# Altium schematic symbol library digital_input_module.SchLib: 10 symbols
Pins are listed as number, name and electrical type; pins without a type are passive.

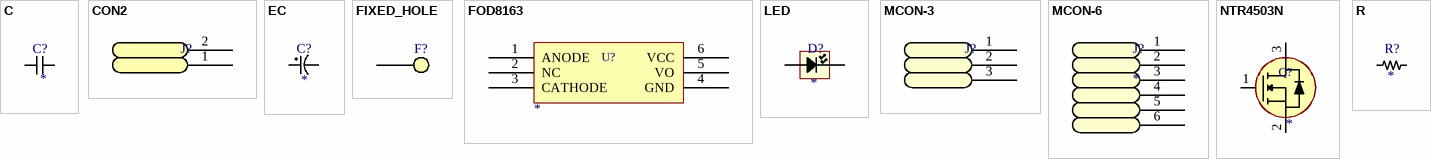
[diagram p0: symbols C to R]

## C
designator C?
Non-polarized Capacitor; Value: *
footprint CAP1608L
pins: 1, 2

## CON2
designator J?  (value not drawn)
Generic Connector 2 Pin
footprint DG128-5.0-02P
pins: 1 "Generic Connector 2 Pin", 2 "Generic Connector 2 Pin"

## EC
designator C?
Polarized Capacitor; Value: *
footprint ECAP-TANTAL-P
pins: 1, 2

## FIXED_HOLE
designator F?  (value not drawn)
footprint FIXED_HOLE_PAD
pins: 1

## FOD8163
designator U?
Logic Output Optocouplers 3.3V/5V Logic Gate Optocoupler; Supplier 1: Mouser; Supplier Part Number 1: 512-FOD8163; Value: *
footprint SOP-6W
pins: 1 ANODE, 2 NC, 3 CATHODE, 4 GND, 5 VO, 6 VCC

## LED
designator D?
LED; Value: *
footprint LED1608L
pins: 1, 2

## MCON-3
designator J?  (value not drawn)
footprint MOLEX-53254-0370
pins: 1, 2, 3

## MCON-6
designator J?
footprint MOLEX-53254-0670
footprint MOLEX-53048-0610
pins: 1, 2, 3, 4, 5, 6

## NTR4503N
designator Q?
Power MOSFET,  30 V, 2.5 A, Single N−Channel, SOT−23; Supplier 1: Mouser; Supplier Part Number 1: 863-NTR4503NST1G; Value: *
footprint SOT-23-3
pins: 1 G, 2 S, 3 D

## R
designator R?
Resistor; Value: *
footprint RES1608L
pins: 1, 2